# EAGLE library part 691401710009 (library Terminal_Blocks_Connectors_rev15e)
WR-TBL Terminal block - serie 401 5,0mm - Spring clamp/Screw less - horizontal entry - 09p Code:Con_TBL_Screwless_5.00_6914017100xxB_691401710009 <http://katalog.we-online.de/media/images/eican/Con_TBL_Screwless_5.00_6914017100xxB_pf2.jpg> Details see: http://katalog.we-online.de/en/em/691_401_710_0xx/691_401_710_009B?m Created 2014-12-22, aslant tao 2014 (C) Würth Elektronik
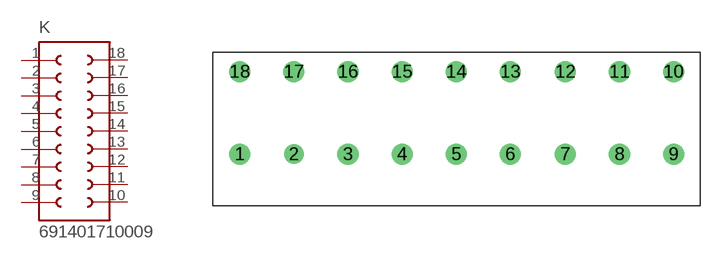
[diagram p238: symbol with the pads of 691401710009; footprint 691401710009]

Designator prefix K

## 691401710009  [691401710009]
1  1  pas
2  2  pas
3  3  pas
4  4  pas
5  5  pas
6  6  pas
7  7  pas
8  8  pas
9  9  pas
10  10  pas
11  11  pas
12  12  pas
13  13  pas
14  14  pas
15  15  pas
16  16  pas
17  17  pas
18  18  pas

## Footprint 691401710009 (pad centres in mm)
WR-TBL Serie 401 - 5.0mm Screwless Horizontal Entry - 2 mm2 Wires, 9 Pins
drill 1.3: 1 -27.38,-3.81; 3 -17.38,-3.81; 4 -12.38,-3.81; 5 -7.38,-3.81; 6 -2.38,-3.81; 7 2.7,-3.81; 8 7.7,-3.81; 9 12.7,-3.81; 10 12.7,3.81; 11 7.7,3.81; 12 2.7,3.81; 13 -2.38,3.81; 14 -7.38,3.81; 15 -12.38,3.81; 16 -17.38,3.81; 17 -22.38,3.81; 18 -27.38,3.81
drill 1.2: 2 -22.38,-3.81